# Altium footprint library PcbLib1.PcbLib: 9 footprints
Each footprint in its own frame and in the unit in brackets; x right, y up, seen from the top. Pads: shape width x height; smd on the part's side, far side on the other; paste and mask are expansions set on the pad; w line width, h text height; cw(c..) or ccw(c..) is an arc to the next point about the centre after c.
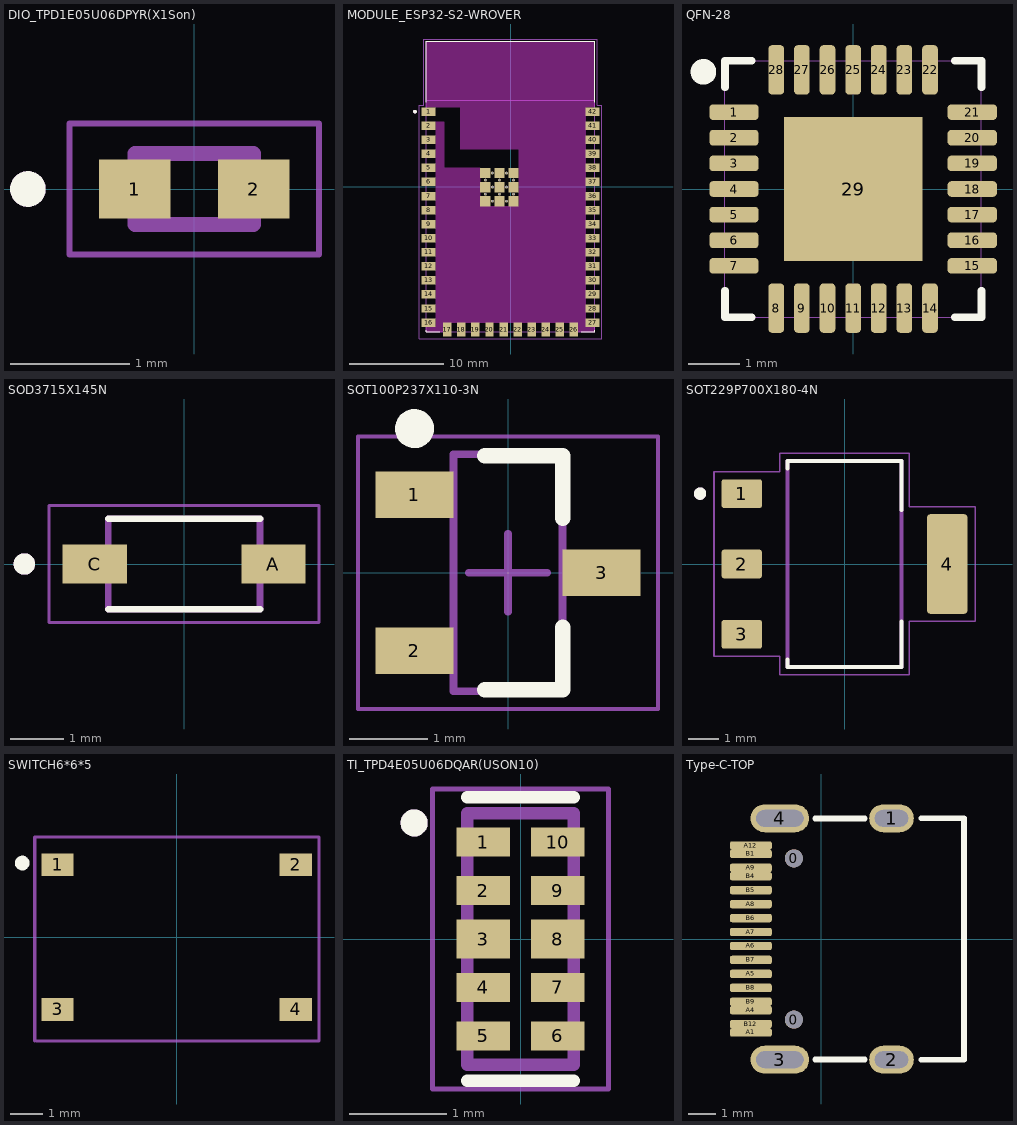
[diagram p0: the footprints below, top view; thin cyan lines are the x and y axes]

## DIO_TPD1E05U06DPYR(X1Son) [mm]
pads (2):
  rect 0.6x0.5 smd: 1(-0.5,0) 2(0.5,0)
Top Overlay:
  circle w0.15: c-1.4,0 r0.075
Mechanical 13:
  circle w0.15: c-1.4,0 r0.075
  lines w0.127: -0.5,-0.3 0.5,-0.3 0.5,0.3 -0.5,0.3 -0.5,-0.3
Mechanical 15:
  lines w0.05: -1.05,-0.55 -1.05,0.55 1.05,0.55 1.05,-0.55 -1.05,-0.55

## MODULE_ESP32-S2-WROVER [mm]
pads (63):
  rect 1.5x0.9 smd: 1(-8.75,8) 2(-8.75,6.5) 3(-8.75,5) 4(-8.75,3.5) 5(-8.75,2) 6(-8.75,0.5) 7(-8.75,-1) 8(-8.75,-2.5) 9(-8.75,-4) 10(-8.75,-5.5) 11(-8.75,-7) 12(-8.75,-8.5) 13(-8.75,-10) 14(-8.75,-11.5) 15(-8.75,-13) 16(-8.75,-14.5) 27(8.75,-14.5) 28(8.75,-13) 29(8.75,-11.5) 30(8.75,-10) 31(8.75,-8.5) 32(8.75,-7) 33(8.75,-5.5) 34(8.75,-4) 35(8.75,-2.5) 36(8.75,-1) 37(8.75,0.5) 38(8.75,2) 39(8.75,3.5) 40(8.75,5) 41(8.75,6.5) 42(8.75,8)
  rect 0.9x1.5 smd: 17(-6.75,-15.25) 18(-5.25,-15.25) 19(-3.75,-15.25) 20(-2.25,-15.25) 21(-0.75,-15.25) 22(0.75,-15.25) 23(2.25,-15.25) 24(3.75,-15.25) 25(5.25,-15.25) 26(6.75,-15.25)
  rect 1.1x1.1 smd: 43_1(-2.69,1.45) 43_2(-1.19,1.45) 43_3(0.31,1.45) 43_4(-2.69,-0.05) 43_5(-1.19,-0.05) 43_6(0.31,-0.05) 43_7(-2.69,-1.55) 43_8(-1.19,-1.55) 43_9(0.31,-1.55)
  round 0.3 hole 0.2: 43_10(-1.94,1.45) 43_11(-0.44,1.45) 43_12(-2.69,0.7) 43_13(-1.19,0.7) 43_14(0.31,0.7) 43_15(-1.94,-0.05) 43_16(-0.44,-0.05) 43_17(-2.69,-0.8) 43_18(-1.19,-0.8) 43_19(0.31,-0.8) 43_20(-1.94,-1.55) 43_21(-0.44,-1.55)
Top Overlay:
  circle w0.2: c-10.2,8 r0.1
  lines w0.127: -9,-15.3 -9,-15.5 -7.55,-15.5 ; -9,9 -9,15.5 9,15.5 9,9 ; 7.55,-15.5 9,-15.5 9,-15.3
Keep-Out Layer:
  region: 9,8.45 8,8.45 8,-14.95 9,-14.95 9,-15.5 7.2,-15.5 7.2,-14.5 -7.2,-14.5 -7.2,-15.5 -9,-15.5 -9,-14.95 -8,-14.95 -8,6.95 -7.075,6.95 -7.075,2 -3.25,2 -3.25,-2.1 0.875,-2.1 0.875,4 -5.375,4 -5.375,8.45 -9,8.45 -9,15.5 9,15.5
  region: 9,8.45 8,8.45 8,-14.95 9,-14.95 9,-15.5 7.2,-15.5 7.2,-14.5 -7.2,-14.5 -7.2,-15.5 -9,-15.5 -9,-14.95 -8,-14.95 -8,6.95 -7.075,6.95 -7.075,2 -3.25,2 -3.25,-2.1 0.875,-2.1 0.875,4 -5.375,4 -5.375,8.45 -9,8.45 -9,15.5 9,15.5
Mechanical 13:
  circle w0.2: c-10.2,8 r0.1
  lines w0.127: -9,9.2 9,9.2 ; -9,9.2 -9,15.5 9,15.5 9,9.2 ; -9,9.2 -9,-15.5 9,-15.5 9,9.2
  text "ANTENNA" at -6,11.75 h1.78
Mechanical 15:
  lines w0.05: -9.75,-16.25 -9.75,8.7 -9.25,8.7 -9.25,15.75 9.25,15.75 9.25,8.7 9.75,8.7 9.75,-16.25 -9.75,-16.25
3D body "step_temp.STEP": height 3.3, standoff 0, extent -9,-15.55 9,15.45

## QFN-28 [mil]
height 169.29
pads (29):
  rrect50% 38x12 smd mask+5: 1(-91.5,59.06) 2(-91.5,39.37) 3(-91.5,19.69) 4(-91.5,0) 5(-91.5,-19.68) 6(-91.5,-39.37) 7(-91.5,-59.05) 15(91.5,-59.05) 16(91.5,-39.37) 17(91.5,-19.68) 18(91.5,0) 19(91.5,19.69) 20(91.5,39.37) 21(91.5,59.06)
  rrect50% 12x38 smd mask+5: 8(-59.05,-91.5) 9(-39.37,-91.5) 10(-19.68,-91.5) 11(0,-91.5) 12(19.69,-91.5) 13(39.37,-91.5) 14(59.06,-91.5) 22(59.06,91.5) 23(39.37,91.5) 24(19.69,91.5) 25(0,91.5) 26(-19.68,91.5) 27(-39.37,91.5) 28(-59.05,91.5)
  rect 106.3x110.24 smd: 29(0,0)
Top Overlay:
  circle w9.84: c-115,90 r4.92
  lines w6: -98.5,-78.16 -98.5,-98.5 -78.16,-98.5 ; -98.5,78.16 -98.5,98.5 -78.16,98.5 ; 78.16,-98.5 98.5,-98.5 98.5,-78.16 ; 78.16,98.5 98.5,98.5 98.5,78.16
Mechanical 1:
  lines w0: -98.5,-98.5 98.5,-98.5 98.5,98.5 -98.5,98.5 -98.5,-98.5 ; -98.5,-65.06 -98.5,-53.05 -98.5,-65.06 ; -98.5,-45.37 -98.5,-33.37 -98.5,-45.37 ; -98.5,-25.68 -98.5,-13.68 -98.5,-25.68 ; -98.5,-6 -98.5,6 -98.5,-6 ; -98.5,13.69 -98.5,25.69 -98.5,13.69 ; -98.5,33.37 -98.5,45.37 -98.5,33.37 ; -98.5,53.06 -98.5,65.06 -98.5,53.06 ; -65.06,-98.5 -53.05,-98.5 -65.06,-98.5 ; -65.06,98.5 -53.05,98.5 -65.06,98.5 ; -45.37,-98.5 -33.37,-98.5 -45.37,-98.5 ; -45.37,98.5 -33.37,98.5 -45.37,98.5 ; -25.68,-98.5 -13.68,-98.5 -25.68,-98.5 ; -25.68,98.5 -13.68,98.5 -25.68,98.5 ; -6,-98.5 6,-98.5 -6,-98.5 ; -6,98.5 6,98.5 -6,98.5 ; 13.69,-98.5 25.69,-98.5 13.69,-98.5 ; 13.69,98.5 25.69,98.5 13.69,98.5 ; 33.37,-98.5 45.37,-98.5 33.37,-98.5 ; 33.37,98.5 45.37,98.5 33.37,98.5 ; 53.06,-98.5 65.06,-98.5 53.06,-98.5 ; 53.06,98.5 65.06,98.5 53.06,98.5 ; 98.5,-65.06 98.5,-53.05 98.5,-65.06 ; 98.5,-45.37 98.5,-33.37 98.5,-45.37 ; 98.5,-25.68 98.5,-13.68 98.5,-25.68 ; 98.5,-6 98.5,6 98.5,-6 ; 98.5,13.69 98.5,25.69 98.5,13.69 ; 98.5,33.37 98.5,45.37 98.5,33.37 ; 98.5,53.06 98.5,65.06 98.5,53.06
3D body "321.stp": height 35.43, standoff 0, extent -98.35,-98.43 98.5,98.43

## SOD3715X145N [mm]
pads (2):
  rect 1.21x0.73 smd: A(1.68,0) C(-1.68,0)
Top Overlay:
  circle w0.2: c-3,0 r0.1
  lines w0.127: -1.425,-0.85 1.425,-0.85 ; -1.425,0.85 1.425,0.85
Mechanical 13:
  circle w0.2: c-3,0 r0.1
  lines w0.127: -1.425,-0.85 -1.425,0.85 1.425,0.85 1.425,-0.85 -1.425,-0.85
Mechanical 15:
  lines w0.05: -2.535,-1.1 -2.535,1.1 2.535,1.1 2.535,-1.1 -2.535,-1.1
3D body "step_temp.STEP": height 0.8, standoff -0.73, extent -1.825,-0.775 1.825,0.775

## SOT100P237X110-3N [mm] "SOT23, 3-Leads, Body 2.92x2.37mm, Pitch 1.00mm, IPC Medium Density"
height 1.1
pads (3):
  rect 1x0.6 smd: 1(-1.2,1) 2(-1.2,-1) 3(1.2,0)
Top Overlay:
  circle w0.25: c-1.2,1.85 r0.125
  lines w0.2: -0.3,-1.5 0.7,-1.5 0.7,-0.7 ; -0.3,1.5 0.7,1.5 0.7,0.7
Mechanical 13:
  lines w0.1: -0.7,-1.52 -0.7,1.52 0.7,1.52 0.7,-1.52 -0.7,-1.52
Mechanical 15:
  lines w0.05: -1.925,-1.75 -1.925,1.75 1.925,1.75 1.925,-1.75 -1.925,-1.75
  lines w0.1: -0.5,0 0.5,0 ; 0,-0.5 0,0.5
3D body: height 1.1, standoff 0.1, extent -0.7,-1.52 0.7,1.52

## SOT229P700X180-4N [mm]
pads (4):
  rrect15% 1.31x0.93 smd: 1(-3.345,2.29) 2(-3.345,0) 3(-3.345,-2.29)
  rrect15% 1.31x3.24 smd: 4(3.345,0)
Top Overlay:
  circle w0.2: c-4.703,2.29 r0.1
  lines w0.127: -1.86,-3.11 -1.86,-3.36 1.86,-3.36 1.86,-1.87 ; -1.86,3.1 -1.86,3.36 1.86,3.36 1.86,1.76
Mechanical 13:
  circle w0.2: c-4.703,2.29 r0.1
  lines w0.127: -1.86,-3.36 -1.86,3.36 1.86,3.36 1.86,-3.36 -1.86,-3.36
Mechanical 15:
  lines w0.05: -4.25,-3.01 -2.11,-3.01 -2.11,-3.61 2.11,-3.61 2.11,-1.87 4.25,-1.87 4.25,1.87 2.11,1.87 2.11,3.61 -2.11,3.61 -2.11,3.01 -4.25,3.01 -4.25,-3.01

## SWITCH6*6*5 [mm]
pads (4):
  rect 1x0.7 smd: 1(-3.7,2.25) 2(3.7,2.25) 3(-3.7,-2.25) 4(3.7,-2.25)
Top Overlay:
  circle w0.254: c-4.8,2.3 r0.1
Mechanical 15:
  lines w0.1: -4.41,-3.23 -4.41,3.11 4.42,3.11 4.42,-3.23 -4.36,-3.23
3D body: height 0.25, standoff 0, extent -1.018,0.537 -1.018,0.537
3D body: height 0.25, standoff 0, extent -1.6,-0.225 -1.6,-0.225
3D body: height 4.5, standoff 0, extent -1.71,-1.686 1.69,1.707
3D body: height 0.25, standoff 0, extent -2.999,2.93 -2.999,2.93
3D body: height 3.6, standoff 0, extent -2.999,-3.07 2.996,2.95

## TI_TPD4E05U06DQAR(USON10) [mm]
pads (10):
  rect 0.55x0.3 smd: 1(-0.385,1) 2(-0.385,0.5) 4(-0.385,-0.5) 5(-0.385,-1) 6(0.385,-1) 7(0.385,-0.5) 9(0.385,0.5) 10(0.385,1)
  rect 0.55x0.4 smd: 3(-0.385,0) 8(0.385,0)
Top Overlay:
  circle w0.14: c-1.1,1.2 r0.07
  lines w0.127: -0.55,-1.464 0.55,-1.464 ; -0.55,1.464 0.55,1.464
Mechanical 13:
  circle w0.14: c-1.1,1.2 r0.07
  lines w0.127: -0.55,-1.3 0.55,-1.3 0.55,1.3 -0.55,1.3 -0.55,-1.3
Mechanical 15:
  lines w0.05: -0.91,-1.55 0.91,-1.55 0.91,1.55 -0.91,1.55 -0.91,-1.55

## Type-C-TOP [mm]
height 4.3
pads (22):
  round 0.65 hole 0.65: 0(-0.98,-2.89) 0(-0.98,2.89)
  oval 1.6x1 hole 0.6 slot 1.2 at 0 deg: 1(2.52,4.325) 2(2.52,-4.325)
  oval 2.1x1 hole 0.6 slot 1.7 at 0 deg: 3(-1.48,-4.325) 4(-1.48,4.325)
  rrect50% 1.5x0.3 smd: A1(-2.52,-3.35) A4(-2.52,-2.55) A5(-2.52,-1.25) A6(-2.52,-0.25) A7(-2.52,0.25) A8(-2.52,1.25) A9(-2.52,2.55) A12(-2.52,3.35) B1(-2.52,3.05) B4(-2.52,2.25) B5(-2.52,1.75) B6(-2.52,0.75) B7(-2.52,-0.75) B8(-2.52,-1.75) B9(-2.52,-2.25) B12(-2.52,-3.05)
Top Overlay:
  lines w0.203: -0.218,-4.318 1.56,-4.318 ; -0.218,4.318 1.56,4.318 ; 3.592,-4.325 5.12,-4.325 5.12,4.325 3.592,4.325
3D body "1.step": height 3.26, standoff -1, extent -2.568,-4.475 5.182,4.475